# EAGLE library part W25Q80BV (library Synapseware)
WS2801 3-Channel Constant Current LED Driver With Programmable PWM Outputs
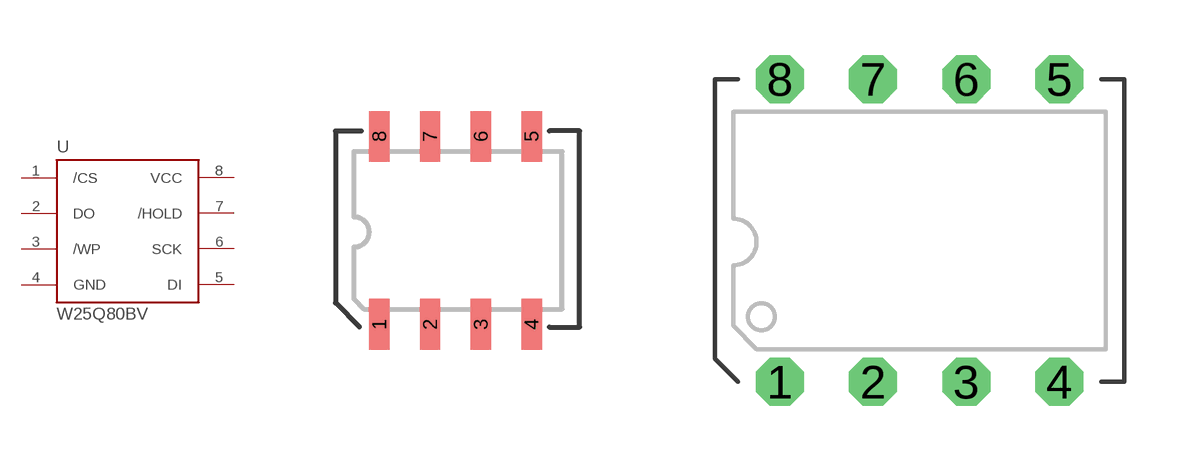
[diagram p19: symbol with the pads of SOIC-8; footprints SOIC-8, PDIP-8]

Designator prefix -

## W25Q80BVSOIC8  [SOIC-8]
1  /CS
2  DO
3  /WP
4  GND
5  DI
6  SCK
7  /HOLD
8  VCC

## W25Q80BVPDIP8  [PDIP-8]
Pads as for SOIC-8

## Footprint SOIC-8 (pad centres in mm)
SOIC-8 (8S1)
smd 0.508 x 1.27: 1 0.381,-0.254; 2 1.651,-0.254; 3 2.921,-0.254; 4 4.191,-0.254; 5 4.191,4.445; 6 2.921,4.445; 7 1.651,4.445; 8 0.381,4.445

## Footprint PDIP-8 (pad centres in mm)
PDIP-8
drill 0.8 octagon: 1 0,0; 2 2.54,0; 3 5.08,0; 4 7.62,0; 5 7.62,8.255; 6 5.08,8.255; 7 2.54,8.255; 8 0,8.255